# Altium schematic symbol library EverLight Infrared Emitter.SchLib: 1 symbol
Pins are listed as number, name and electrical type; pins without a type are passive.

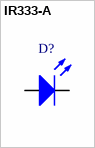
[diagram p0: symbol IR333-A]

## IR333-A
designator D?
Infrared (IR) Emitter 940nm 1.2V 100mA 7.8mW/sr @ 20mA 20° Radial; Manufacturer: EverLight; PartNumber: IR333-A; Package: Radial_2PIN_P2.54mm_D5mm; PackageDescription: Radial, 2-Pin, 2.54mm pitch, 5mm diameter; Supplier 1: Digi-Key; Supplier Part Number 1: 1080-1080-ND
footprint Radial_2PIN_P2.54mm_D5mm (Radial, 2-Pin, 2.54mm pitch, 5mm diameter)
pins: 1 A, 2 K